# Altium footprint library Led_THT_Pcb.PcbLib: 4 footprints
Each footprint in its own frame and in the unit in brackets; x right, y up, seen from the top. Pads: shape width x height; smd on the part's side, far side on the other; paste and mask are expansions set on the pad; w line width, h text height; cw(c..) or ccw(c..) is an arc to the next point about the centre after c.
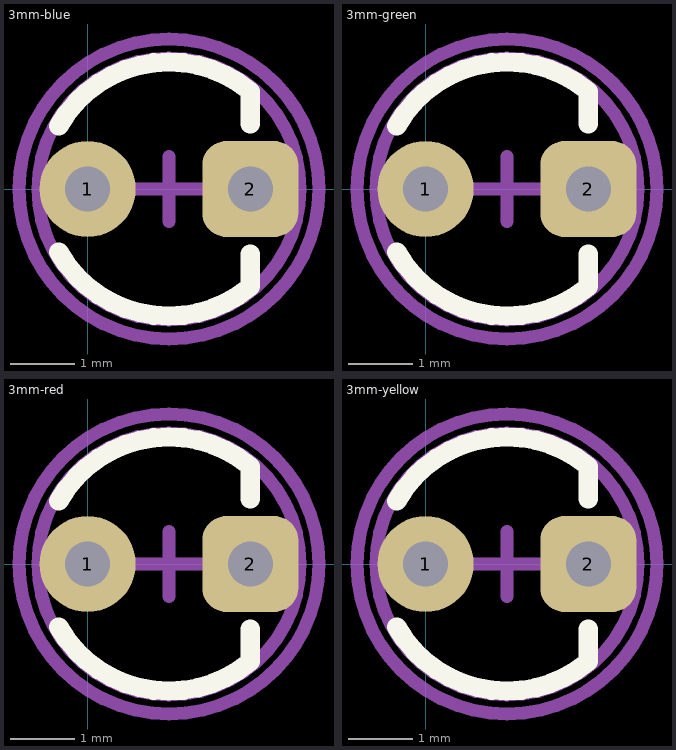
[diagram p0: the footprints below, top view; thin cyan lines are the x and y axes]

## 3mm-blue [mm]
pads (2):
  round 1.5 hole 0.7 unplated: 1(0,0)
  rrect50% 1.5x1.5 hole 0.7 unplated: 2(2.54,0)
Top Overlay:
  lines w0.3: -0.452,-0.984 ccw(c1.27,0) 2.54,-1.524 2.54,-1.016 ; -0.452,0.984 cw(c1.27,0) 2.54,1.524 2.54,1.016
Mechanical 13:
  circle w0.2: c1.27,0 r2.048
Mechanical 15:
  circle w0.2: c1.27,0 r2.342
  lines w0.2: 0.762,0 1.778,0 ; 1.27,-0.508 1.27,0.508
3D body "3mm-led-blue.step": height 10.21, standoff -2.35, extent -0.63,-1.9 2.796,1.9

## 3mm-green [mm]
pads (2):
  round 1.5 hole 0.7 unplated: 1(0,0)
  rrect50% 1.5x1.5 hole 0.7 unplated: 2(2.54,0)
Top Overlay:
  lines w0.3: -0.452,-0.984 ccw(c1.27,0) 2.54,-1.524 2.54,-1.016 ; -0.452,0.984 cw(c1.27,0) 2.54,1.524 2.54,1.016
Mechanical 13:
  circle w0.2: c1.27,0 r2.048
Mechanical 15:
  circle w0.2: c1.27,0 r2.342
  lines w0.2: 0.762,0 1.778,0 ; 1.27,-0.508 1.27,0.508
3D body "3mm-led-green.step": height 10.21, standoff -2.35, extent -0.63,-1.9 2.796,1.9

## 3mm-red [mm]
pads (2):
  round 1.5 hole 0.7 unplated: 1(0,0)
  rrect50% 1.5x1.5 hole 0.7 unplated: 2(2.54,0)
Top Overlay:
  lines w0.3: -0.452,-0.984 ccw(c1.27,0) 2.54,-1.524 2.54,-1.016 ; -0.452,0.984 cw(c1.27,0) 2.54,1.524 2.54,1.016
Mechanical 13:
  circle w0.2: c1.27,0 r2.048
Mechanical 15:
  circle w0.2: c1.27,0 r2.342
  lines w0.2: 0.762,0 1.778,0 ; 1.27,-0.508 1.27,0.508
3D body "3mm-led-red.step": height 10.21, standoff -2.35, extent -0.63,-1.9 2.796,1.9

## 3mm-yellow [mm]
pads (2):
  round 1.5 hole 0.7 unplated: 1(0,0)
  rrect50% 1.5x1.5 hole 0.7 unplated: 2(2.54,0)
Top Overlay:
  lines w0.3: -0.452,-0.984 ccw(c1.27,0) 2.54,-1.524 2.54,-1.016 ; -0.452,0.984 cw(c1.27,0) 2.54,1.524 2.54,1.016
Mechanical 13:
  circle w0.2: c1.27,0 r2.048
Mechanical 15:
  circle w0.2: c1.27,0 r2.342
  lines w0.2: 0.762,0 1.778,0 ; 1.27,-0.508 1.27,0.508
3D body "3mm-led-yellow.step": height 10.21, standoff -2.35, extent -0.63,-1.9 2.796,1.9